# Altium footprint library temp.PcbLib: 13 footprints
Each footprint in its own frame and in the unit in brackets; x right, y up, seen from the top. Pads: shape width x height; smd on the part's side, far side on the other; paste and mask are expansions set on the pad; w line width, h text height; cw(c..) or ccw(c..) is an arc to the next point about the centre after c.
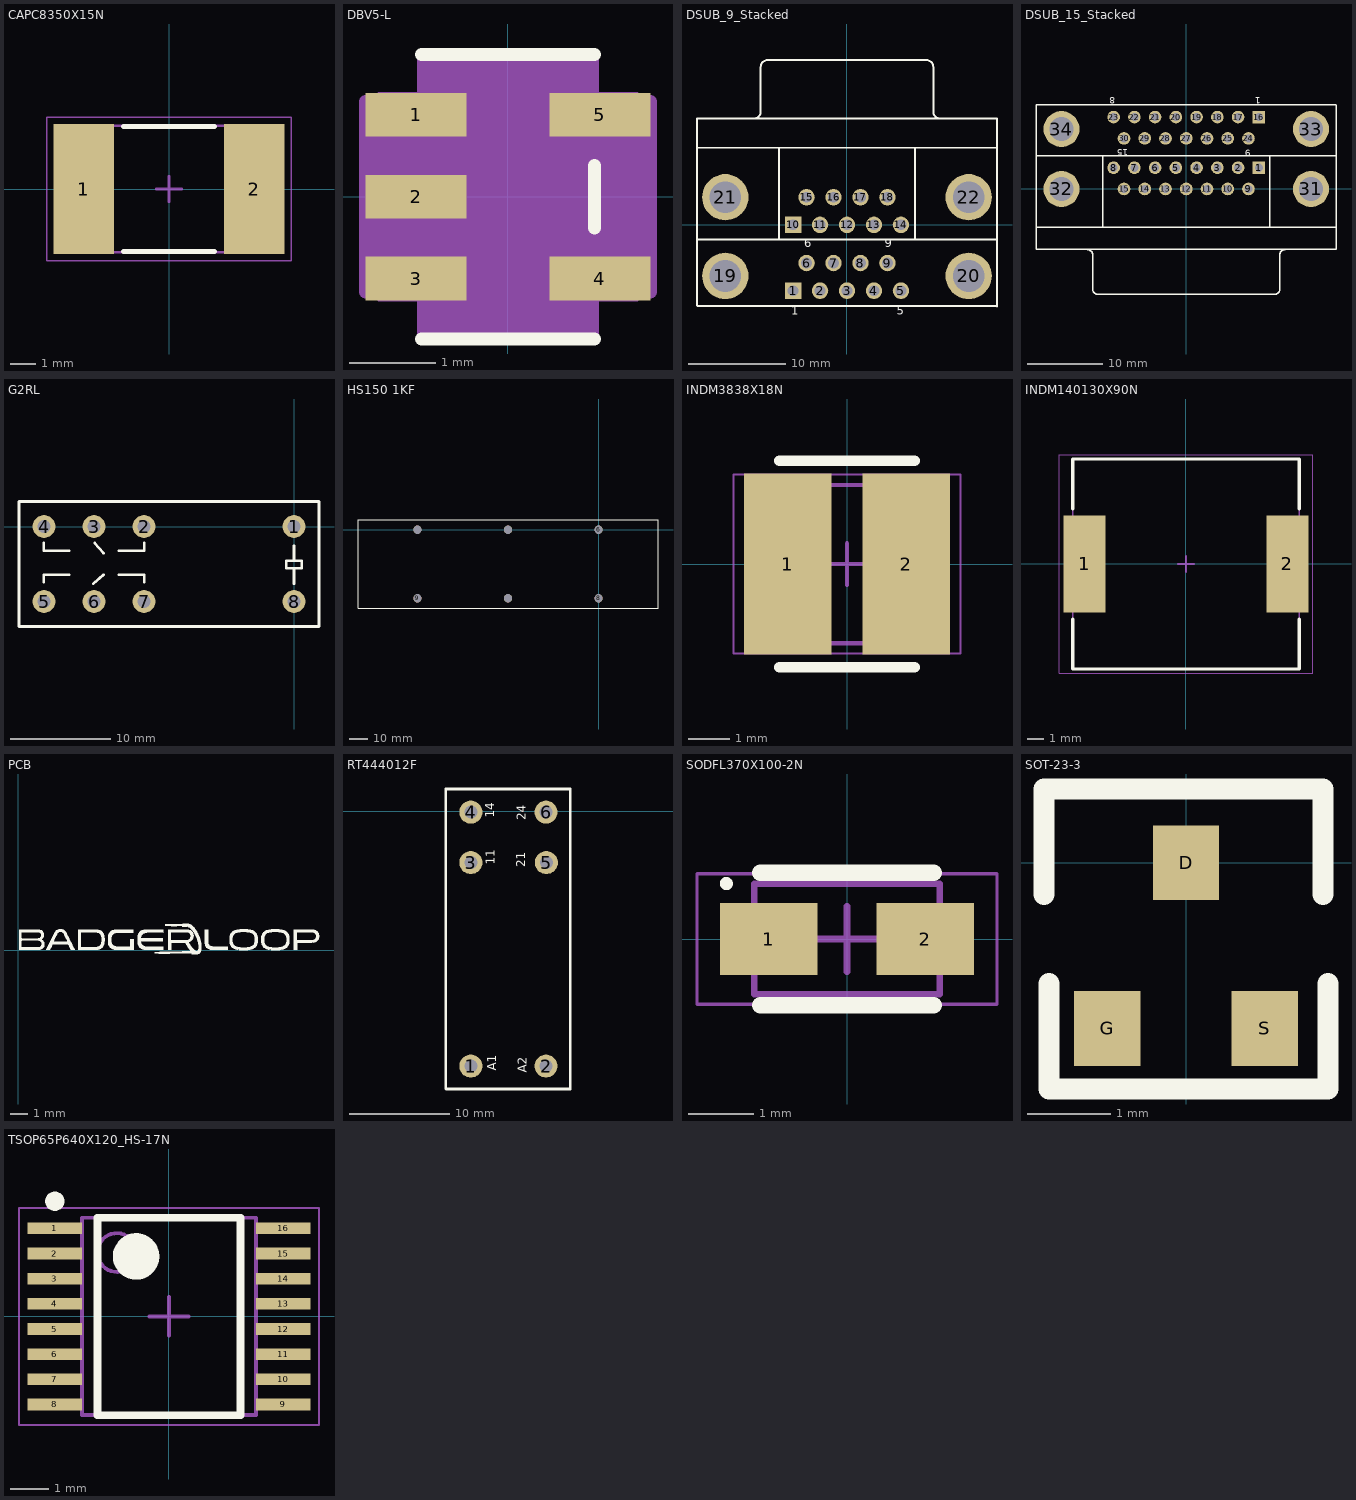
[diagram p0: the footprints below, top view; thin cyan lines are the x and y axes]

## CAPC8350X15N [mm] "Chip Capacitor, 2-Leads, Body 8.30x5.00mm, IPC Medium Density"
height 1.5
pads (2):
  rect 2.4x5.15 smd: 1(-3.375,0) 2(3.375,0)
Top Overlay:
  lines w0.2: -1.8,-2.475 1.8,-2.475 ; -1.8,2.475 1.8,2.475
Mechanical 13:
  lines w0.1: -4.15,-2.5 4.15,-2.5 4.15,2.5 -4.15,2.5 -4.15,-2.5
Mechanical 15:
  lines w0.05: -4.85,-2.85 4.85,-2.85 4.85,2.85 -4.85,2.85 -4.85,-2.85
  lines w0.1: -0.5,0 0.5,0 ; 0,-0.5 0,0.5
3D body "CAPC8350X15N.step": height 1.5, standoff 0, extent -4.15,-2.5 4.15,2.5

## DBV5-L [mil]
pads (5):
  rect 46x20 smd paste+0 mask+0: 1(-42,37.4) 2(-42,0) 3(-42,-37.4) 4(42,-37.4) 5(42,37.4)
Top Overlay:
  lines w6: -39.5,-65 39.5,-65 ; -39.5,65 39.5,65 ; 39.5,-14.3 39.5,14.3
Mechanical 13:
  lines w0: -12,60 ccw(c0,60) 12,60
  lines w1: -59,-47.4 -34.5,-47.4 -34.5,-27.4 -59,-27.4 -59,-47.4 ; -59,-10 -34.5,-10 -34.5,10 -59,10 -59,-10 ; -59,27.4 -34.5,27.4 -34.5,47.4 -59,47.4 -59,27.4 ; -34.5,-60 -34.5,60 34.5,60 34.5,-60 -34.5,-60 ; 34.5,-47.4 59,-47.4 59,-27.4 34.5,-27.4 34.5,-47.4 ; 34.5,27.4 59,27.4 59,47.4 34.5,47.4 34.5,27.4
  text "*" at -37,14.4 h50
Mechanical 15:
  region: 38.5,-64 -38.5,-64 -38.5,-43.4 -65,-43.4 -65,43.4 -38.5,43.4 -38.5,64 38.5,64 38.5,43.4 65,43.4 65,-43.4 38.5,-43.4
  lines w6: -65,-43.4 -65,43.4 -38.5,43.4 -38.5,64 38.5,64 38.5,43.4 65,43.4 65,-43.4 38.5,-43.4 38.5,-64 -38.5,-64 -38.5,-43.4 -65,-43.4
3D body: height 10, standoff 0, extent 0,0 10,10
3D body "DBV5-L.stp": height 57.09, standoff 0, extent -59.01,-59.99 59.02,60.01

## DSUB_9_Stacked [mm]
pads (22):
  rect 1.69x1.69 hole 1.09: 1(-5.516,-6.756) 10(-5.516,0)
  round 1.69 hole 1.09: 2(-2.746,-6.756) 3(0.024,-6.756) 4(2.794,-6.756) 5(5.564,-6.756) 6(-4.131,-3.916) 7(-1.361,-3.916) 8(1.409,-3.916) 9(4.179,-3.916) 11(-2.746,0) 12(0.024,0) 13(2.794,0) 14(5.564,0) 15(-4.131,2.84) 16(-1.361,2.84) 17(1.409,2.84) 18(4.179,2.84)
  round 4.76 hole 3.26: 19(-12.471,-5.237) 20(12.519,-5.237) 21(-12.471,2.84) 22(12.519,2.84)
Top Overlay:
  lines w0.2: -15.376,7.92 15.424,7.92 ; -15.373,-1.416 -15.373,-8.274 -15.31,-8.338 15.424,-8.338 ; -9.536,10.925 ccw(c-9.536,11.62) -8.841,11.62 -8.841,16.22 ; -8.836,16.225 cw(c-8.141,16.225) -8.141,16.92 8.189,16.92 cw(c8.189,16.225) 8.884,16.225 ; -6.976,-1.48 -6.976,7.92 ; 7.024,-1.48 7.024,7.92 ; 8.889,16.22 8.889,11.62 ccw(c9.584,11.62) 9.584,10.925 ; 15.424,-8.363 15.424,-1.48 ; 15.424,-1.48 15.424,10.92 -15.376,10.92 -15.376,-1.48 15.424,-1.48
  text "6" at -4.389,-2.627 h1.5
  text "9" at 3.921,-2.627 h1.5
  text "5" at 5.128,-9.551 h1.5
  text "1" at -5.702,-9.551 h1.5
3D body "Dsub_9Stacked.STEP": height 32.89, standoff -2.06, extent -15.405,-8.382 15.405,17.043

## DSUB_15_Stacked [mm]
pads (34):
  rect 1.69x1.69 hole 1.09: 1(9.695,2.84) 16(9.695,9.601)
  round 1.69 hole 1.09: 2(6.925,2.84) 3(4.155,2.84) 4(1.385,2.84) 5(-1.385,2.84) 6(-4.155,2.84) 7(-6.925,2.84) 8(-9.695,2.84) 9(8.31,0) 10(5.54,0) 11(2.77,0) 12(0,0) 13(-2.77,0) 14(-5.54,0) 15(-8.31,0) 17(6.925,9.601) 18(4.155,9.601) 19(1.385,9.601) 20(-1.385,9.601) 21(-4.155,9.601) 22(-6.925,9.601) 23(-9.695,9.601) 24(8.31,6.756) 25(5.54,6.756) 26(2.77,6.756) 27(0,6.756) 28(-2.77,6.756) 29(-5.54,6.756) 30(-8.31,6.756)
  round 4.8 hole 3.18: 31(16.66,0) 32(-16.66,0) 33(16.66,8.001) 34(-16.66,8.001)
Top Overlay:
  lines w0.2: -20.064,11.214 19.937,11.214 ; -20,-5.08 20,-5.08 ; -20,-1.286 -20,11.214 ; -13.195,-8.085 cw(c-13.195,-8.78) -12.5,-8.78 -12.5,-13.38 ; -12.495,-13.385 ccw(c-11.8,-13.385) -11.8,-14.08 11.8,-14.08 ccw(c11.8,-13.385) 12.495,-13.385 ; -11.14,-5.08 -11.14,4.42 ; 11.14,-5.08 11.14,4.42 ; 12.5,-13.38 12.5,-8.78 cw(c13.195,-8.78) 13.195,-8.085 ; 20,-1.286 20,11.214 ; -20,-8.08 -20,4.42 20,4.42 20,-8.08 -20,-8.08
  text "1" at 9.97,12.573 h1.5
  text "8" at -9.461,12.573 h1.5
  text "15" at -7.747,5.651 h1.5
  text "9" at 8.636,5.588 h1.5
3D body "DSUB_15Stacked.STEP": height 31.62, standoff -3.33, extent -19.66,-14.16 19.66,11.265

## G2RL [mm]
height 15.5
pads (8):
  round 2.3 hole 1.3: 1(0,0) 2(-15,0) 3(-20,0) 4(-25,0) 5(-25,-7.5) 6(-20,-7.5) 7(-15,-7.5) 8(0,-7.5)
Top Overlay:
  lines w0.254: -25.019,-5.588 -25.019,-4.826 -22.479,-4.826 ; -25.019,-1.651 -25.019,-2.413 -22.479,-2.413 ; -20.066,-5.715 -19.05,-4.826 ; -19.939,-1.651 -19.05,-2.667 ; -17.526,-4.826 -14.986,-4.826 -14.986,-5.588 ; -17.526,-2.413 -14.986,-2.413 -14.986,-1.651 ; 0,-5.715 0,-4.191 ; 0,-1.905 0,-3.429 ; 0,-4.191 0.762,-4.191 0.762,-3.429 0,-3.429 ; 0,-4.191 -0.762,-4.191 -0.762,-3.429 0,-3.429 ; -27.5,-10 -27.5,2.5 2.5,2.5 2.5,-10 -27.5,-10
3D body: height 1.45, standoff 0, extent 2.413,-9.906 2.413,-9.906
3D body: height 15.7, standoff 0, extent -27.432,-9.906 2.413,2.413
3D body: height 1.45, standoff 0, extent -24.638,-9.525 -24.638,-9.525

## HS150 1KF [mm] "1k Power Resistor"
pads (6):
  round 4.4 hole 4.4 unplated: 6(0,0) 8(0,-37) 9(-97.7,-37) 10(-48.85,-37) 11(-48.85,0) 12(-97.7,0)
Top Overlay:
  lines w0.5: -129.75,-42.25 -129.75,5.25 32.05,5.25 32.05,-42.25 -129.75,-42.25

## INDM3838X18N [mm] "Molded Inductor, 2-Leads, Body 3.80x3.80mm, IPC Medium Density"
height 1.8
pads (2):
  rect 2.1x4.35 smd: 1(-1.425,0) 2(1.425,0)
Top Overlay:
  lines w0.254: -1.619,-2.476 1.619,-2.476 ; -1.619,2.476 1.619,2.476
Mechanical 13:
  lines w0.1: -1.9,-1.9 1.9,-1.9 1.9,1.9 -1.9,1.9 -1.9,-1.9
Mechanical 15:
  lines w0.05: -2.725,-2.15 2.725,-2.15 2.725,2.15 -2.725,2.15 -2.725,-2.15
  lines w0.1: -0.5,0 0.5,0 ; 0,-0.5 0,0.5
3D body "INDM3838X18N.step": height 1.8, standoff 0, extent -2.12,-2.125 2.12,2.125

## INDM140130X90N [mm] "Molded Inductor, 2-Leads, Body 14.00x13.00mm, IPC Medium Density"
height 9
pads (2):
  rect 2.6x6 smd: 1(-6.275,0) 2(6.275,0)
Top Overlay:
  lines w0.2: -7,-3.4 -7,-6.5 7,-6.5 7,-3.4 ; -7,3.4 -7,6.5 7,6.5 7,3.4
Mechanical 13:
  lines w0.1: -7,-6.5 -7,6.5 7,6.5 7,-6.5 -7,-6.5
Mechanical 15:
  lines w0.05: -7.825,-6.75 -7.825,6.75 7.825,6.75 7.825,-6.75 -7.825,-6.75
  lines w0.1: -0.5,0 0.5,0 ; 0,-0.5 0,0.5
3D body "INDM140130X90N.step": height 9, standoff 0, extent -7.22,-6.5 7.22,6.5

## PCB [mm]
Top Overlay:
  drawing of 10 lines, arcs and shapes, not listed
  text ".Pcb_File_Name_No_Path" at 0.05,-2.794 h1.52
  text ".Revision" at 10.16,-2.794 h1.52
  text ".Engineer" at 10.16,-5.063 h1.52
  text ".Designer" at 0.05,-5.08 h1.52

## RT444012F [mm] "RELAY GEN PURPOSE DPST 8A 12V"
height 15.7
pads (6):
  round 2.3 hole 1.3: 1(172.466,-25.425) 2(179.966,-25.425) 3(172.466,-5.131) 4(172.466,-0.102) 5(180,-5.131) 6(179.966,-0.102)
Top Overlay:
  lines w0.254: 169.977,-27.686 170.002,-27.711 171.12,-27.711 181.331,-27.711 182.372,-27.711 182.372,2.21 179.305,2.21 173.12,2.21 170.205,2.21 169.977,2.21 169.977,-27.686
  text "A1" at 175.285,-25.908 h1.52
  text "A2" at 178.333,-26.086 h1.52
  text "11" at 175.133,-5.334 h1.52
  text "21" at 178.206,-5.588 h1.52
  text "14" at 175.082,-0.66 h1.52
  text "24" at 178.257,-0.914 h1.52
3D body: height 10, standoff 0.2, extent 170.249,-27.305 182.049,1.895

## SODFL370X100-2N [mm] "SODFL, 2-Leads, Body 1.55x3.70mm, IPC Medium Density"
height 1
pads (2):
  rect 1.5x1.1 smd: 1(-1.2,0) 2(1.2,0)
Top Overlay:
  circle w0.1: c-1.85,0.85 r0.05
  lines w0.254: -1.333,-1.016 1.333,-1.016 ; -1.333,1.016 1.333,1.016
Mechanical 13:
  lines w0.1: -1.425,-0.85 -1.425,0.85 1.425,0.85 1.425,-0.85 -1.425,-0.85
Mechanical 15:
  lines w0.05: -2.3,-1 -2.3,1 2.3,1 2.3,-1 -2.3,-1
  lines w0.1: -0.5,0 0.5,0 ; 0,-0.5 0,0.5
3D body "SODFL370X100-2N.step": height 1, standoff 0, extent -1.85,-0.85 1.85,0.85

## SOT-23-3 [mm] "MOSFET"
height 1.1
pads (3):
  rect 0.8x0.9 smd: D(0,0) G(-0.95,-2) S(0.95,-2)
Top Overlay:
  lines w0.254: -1.714,-0.381 -1.714,0.889 1.651,0.889 1.651,0.508 1.651,-0.381 ; -1.651,-1.46 -1.651,-2.349 -1.651,-2.73 1.714,-2.73 ; 1.714,-1.46 1.714,-2.73 ; 1.714,-2.73 1.714,-2.73

## TSOP65P640X120_HS-17N [mm] "TSOP, 16-Leads, Body 5.00x4.40mm, Pitch 0.65mm, Thermal Pad 0.00x0.00mm, IPC Medium Density"
height 1.2
pads (16):
  rect 1.4x0.3 smd: 1(-2.95,2.275) 2(-2.95,1.625) 3(-2.95,0.975) 4(-2.95,0.325) 5(-2.95,-0.325) 6(-2.95,-0.975) 7(-2.95,-1.625) 8(-2.95,-2.275) 9(2.95,-2.275) 10(2.95,-1.625) 11(2.95,-0.975) 12(2.95,-0.325) 13(2.95,0.325) 14(2.95,0.975) 15(2.95,1.625) 16(2.95,2.275)
Top Overlay:
  circle w0.6: c-0.85,1.55 r0.3
  circle w0.25: c-2.95,2.975 r0.125
  lines w0.2: -1.85,-2.55 1.85,-2.55 1.85,2.55 -1.85,2.55 -1.85,-2.55
Mechanical 13:
  circle w0.1: c-1.35,1.65 r0.5
  lines w0.1: -2.25,-2.55 2.25,-2.55 2.25,2.55 -2.25,2.55 -2.25,-2.55
Mechanical 15:
  lines w0.05: -3.875,-2.8 3.875,-2.8 3.875,2.8 -3.875,2.8 -3.875,-2.8
  lines w0.1: -0.5,0 0.5,0 ; 0,-0.5 0,0.5
3D body "TSOP65P640X120_HS-17N.step": height 1.2, standoff 0, extent -3.2,-2.55 3.2,2.55